# EAGLE library part LT8471IFE#PBF (library LT8471IFE#PBF)
DC/DC CONVERTER, MULTITOPOLOGY, 50V, TSSOP-20; Supply Voltage:50V; No. of Step-Down DC - DC Converters:2; No. of LDO Regulators:-; No. of Regulated Outputs:2; Digital IC Case:TSSOP; No. of Pins:20Pins; Operating Temperature Min:-40CRoHS Compliant: Yes Source: Datasheet <https://www.analog.com/media/en/technical-documentation/data-sheets/8471fd.pdf>
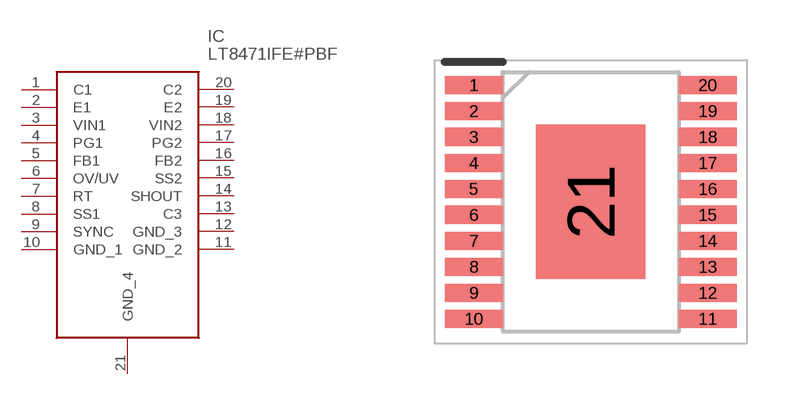
[diagram p0: symbol with the pads of SOP65P640X120-21N; footprint SOP65P640X120-21N]

Designator prefix IC

## LT8471IFE#PBF (Description: DC/DC CONVERTER, MULTITOPOLOGY, 50V, TSSOP-20; Supply Voltage:50V; No. of Step-Down DC - DC Converters:2; No. of LDO Regulators:-; No. of Regulated Outputs:2; Digital IC Case:TSSOP; No. of Pins:20Pins; Operating Temperature Min:-40CRoHS Compliant: Yes; Height: 1.2mm; Manufacturer_Name: Analog Devices; Manufacturer_Part_Number: LT8471IFE#PBF; Mouser_Part_Number: 584-LT8471IFE#PBF; Mouser_Price-Stock: https://www.mouser.co.uk/ProductDetail/Analog-Devices/LT8471IFEPBF?qs=hVkxg5c3xu%2FiDctk9AXMtQ%3D%3D)  [SOP65P640X120-21N]
1  C1
2  E1
3  VIN1
4  PG1
5  FB1
6  OV/UV
7  RT
8  SS1
9  SYNC
10  GND_1
11  GND_2
12  GND_3
13  C3
14  SHOUT
15  SS2
16  FB2
17  PG2
18  VIN2
19  E2
20  C2
21  GND_4

## Footprint SOP65P640X120-21N (pad centres in mm)
FE Package
smd 1.45 x 0.45: 1 -2.925,2.925; 2 -2.925,2.275; 3 -2.925,1.625; 4 -2.925,0.975; 5 -2.925,0.325; 6 -2.925,-0.325; 7 -2.925,-0.975; 8 -2.925,-1.625; 9 -2.925,-2.275; 10 -2.925,-2.925; 11 2.925,-2.925; 12 2.925,-2.275; 13 2.925,-1.625; 14 2.925,-0.975; 15 2.925,-0.325; 16 2.925,0.325; 17 2.925,0.975; 18 2.925,1.625; 19 2.925,2.275; 20 2.925,2.925
smd 2.74 x 3.86: 21 0,0